# Altium schematic symbol library C-C0603C470J5GACTU.Schlib: 1 symbol
Pins are listed as number, name and electrical type; pins without a type are passive.

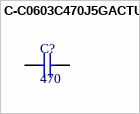
[diagram p0: symbol C-C0603C470J5GACTU]

## C-C0603C470J5GACTU
designator C?, comment 470
Multilayer Ceramic Capacitors MLCC - SMD/SMT 50volts 47pF C0G 5%
pins: 1, 2